# EAGLE library part 236-216/000-006 (library con-wago_236)
Serie 236, Stand: 01.01.2012. Die jeweils aktuellen Daten zu diesem Artikel finden Sie in unserem Produktkatalog, den Sie unter www.wago.com einsehen können. As of: 01/01/2012. Please find the newest data for this article in our product catalogue, which can be viewed under www.wago.com.
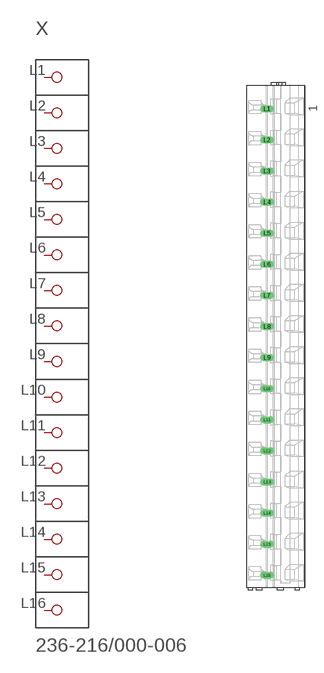
[diagram p94: symbol with the pads of P-236-216; footprint P-236-216]

Designator prefix X

## 236-216/000-006  [P-236-216]
L1  P1
L2  P2
L3  P3
L4  P4
L5  P5
L6  P6
L7  P7
L8  P8
L9  P9
L10  P10
L11  P11
L12  P12
L13  P13
L14  P14
L15  P15
L16  P16

## Footprint P-236-216 (pad centres in mm)
drill 1.1 long: L1 -2.043,54.85; L2 -2.043,47.35; L3 -2.043,39.85; L4 -2.043,32.35; L5 -2.043,24.85; L6 -2.043,17.35; L7 -2.043,9.85; L8 -2.043,2.35; L9 -2.043,-5.15; L10 -2.043,-12.65; L11 -2.043,-20.15; L12 -2.043,-27.65; L13 -2.043,-35.15; L14 -2.043,-42.65; L15 -2.043,-50.15; L16 -2.043,-57.65